# Altium schematic symbol library UNO-TH_Rev3e.SCHLIB: 35 symbols
Pins are listed as number, name and electrical type; pins without a type are passive.

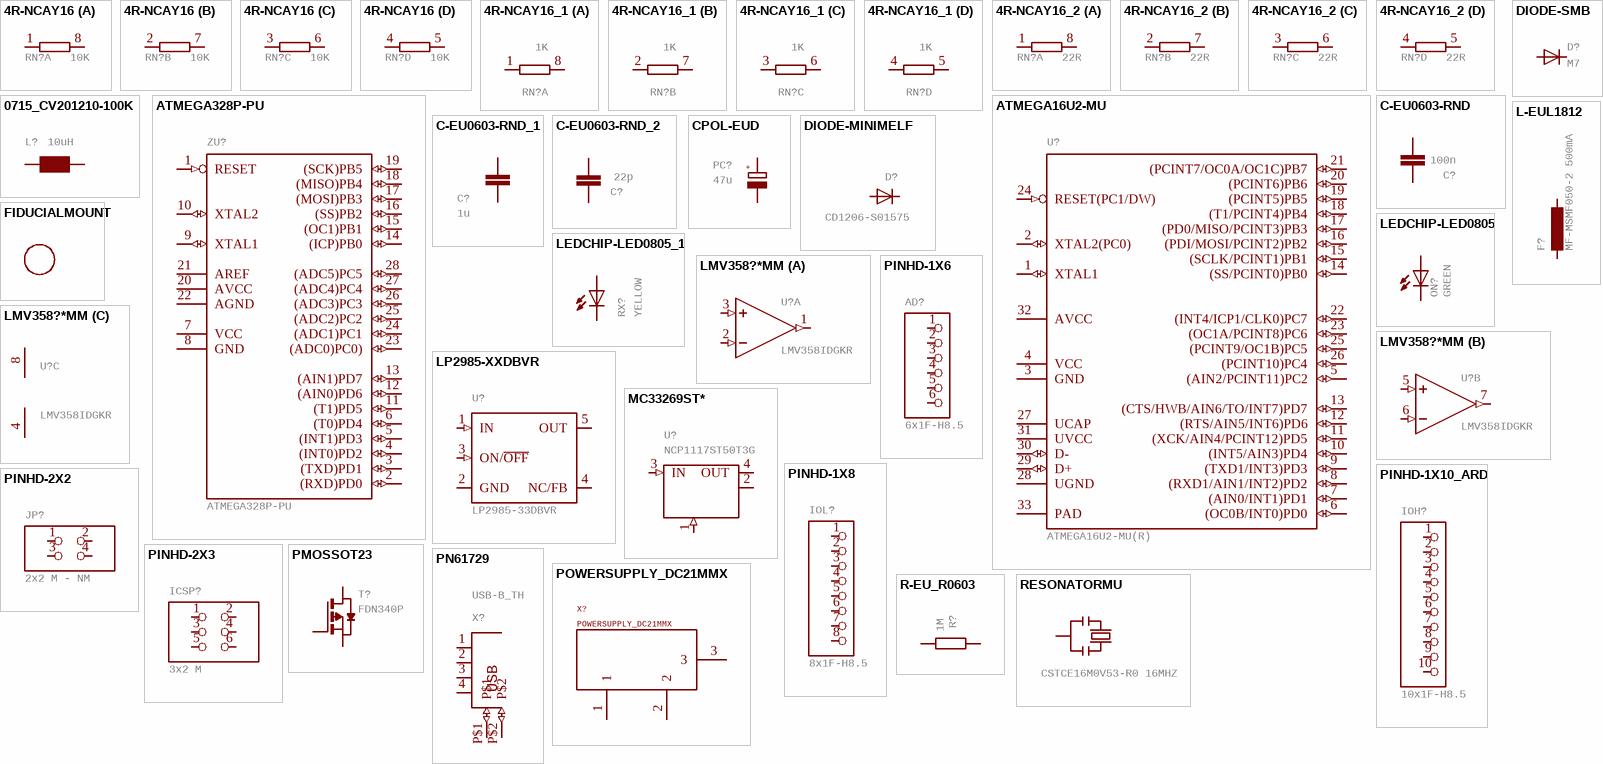
[diagram p0: symbols 4R-NCAY16 to RESONATORMU]

## 4R-NCAY16
designator RN?, comment 10K
Array Chip Resistor   Source: RS Component / Phycomp; GateName_1: A; SymbolName_1: R1NV; GateName_2: B; GateName_3: C; GateName_4: D; DeviceName: CAY16; DeviceSetName: 4R-N; SymbolName_2: R1NV; SymbolName_3: R1NV; SymbolName_4: R1NV; LibraryName: resistor-dil
footprint CAY16
part A pins: 1, 8 2
part B pins: 2 1, 7 2
part C pins: 3 1, 6 2
part D pins: 4 1, 5 2

## 4R-NCAY16_1
designator RN?, comment 1K
Array Chip Resistor   Source: RS Component / Phycomp; GateName_1: A; SymbolName_1: R1NV; GateName_2: B; GateName_3: C; GateName_4: D; DeviceName: CAY16; DeviceSetName: 4R-N; SymbolName_2: R1NV; SymbolName_3: R1NV; SymbolName_4: R1NV; LibraryName: resistor-dil
footprint CAY16
part A pins: 1, 8 2
part B pins: 2 1, 7 2
part C pins: 3 1, 6 2
part D pins: 4 1, 5 2

## 4R-NCAY16_2
designator RN?, comment 22R
Array Chip Resistor   Source: RS Component / Phycomp; GateName_1: A; SymbolName_1: R1NV; GateName_2: B; GateName_3: C; GateName_4: D; DeviceName: CAY16; DeviceSetName: 4R-N; SymbolName_2: R1NV; SymbolName_3: R1NV; SymbolName_4: R1NV; LibraryName: resistor-dil
footprint CAY16
part A pins: 1, 8 2
part B pins: 2 1, 7 2
part C pins: 3 1, 6 2
part D pins: 4 1, 5 2

## 0715_CV201210-100K
designator L?, comment 10uH
10uH 0805; PART_NUMBER: CV201210-100K; GateName_1: G$1; SymbolName_1: L; DeviceSetName: 0715_CV201210-100K; MONTHLY_USAGE: _____; TYPE: Induttanze; LibraryName: Induttanze; CASE: 0805; PRICE: _____; SUPPLIER: _____
footprint 0805
pins: 1, 2

## ATMEGA16U2-MU
designator U?, comment ATMEGA16U2-MU(R)
GateName_1: G$1; SymbolName_1: ATMEL_MEGA8U2; DeviceName: MU; LibraryName: SmartPrj; DeviceSetName: ATMEGA16U2-
footprint MLF32
pins: 1 XTAL1 (io), 2 XTAL2(PC0) (io), 3 GND (power), 4 VCC (power), 5 (AIN2/PCINT11)PC2 (io), 6 (OC0B/INT0)PD0 (io), 7 (AIN0/INT1)PD1 (io), 8 (RXD1/AIN1/INT2)PD2 (io), 9 (TXD1/INT3)PD3 (io), 10 (INT5/AIN3)PD4 (io), 11 (XCK/AIN4/PCINT12)PD5 (io), 12 (RTS/AIN5/INT6)PD6 (io), 13 (CTS/HWB/AIN6/TO/INT7)PD7 (io), 14 (SS/PCINT0)PB0 (io), 15 (SCLK/PCINT1)PB1 (io), 16 (PDI/MOSI/PCINT2)PB2 (io), 17 (PD0/MISO/PCINT3)PB3 (io), 18 (T1/PCINT4)PB4 (io), 19 (PCINT5)PB5 (io), 20 (PCINT6)PB6 (io), 21 (PCINT7/OC0A/OC1C)PB7 (io), 22 (INT4/ICP1/CLK0)PC7 (io), 23 (OC1A/PCINT8)PC6 (io), 24 RESET(PC1/DW) (in), 25 (PCINT9/OC1B)PC5 (io), 26 (PCINT10)PC4 (io), 27 UCAP, 28 UGND (power), 29 D+ (io), 30 D- (io), 31 UVCC (power), 32 AVCC (power), 33 PAD (power)

## ATMEGA328P-PU
designator ZU?
MICROCONTROLLER   4 Kbytes FLASH   128 bytes SRAM   256 bytes EEPROM   UART   6-channel 10 bit ADC; GateName_1: G$1; SymbolName_1: 20-I/O-2; DeviceName: PU; LibraryName: SmartPrj; DeviceSetName: ATMEGA328P-
footprint DIL28-3
pins: 1 RESET (in), 2 (RXD)PD0 (io), 3 (TXD)PD1 (io), 4 (INT0)PD2 (io), 5 (INT1)PD3 (io), 6 (T0)PD4 (io), 7 VCC (power), 8 GND (power), 9 XTAL1 (io), 10 XTAL2 (io), 11 (T1)PD5 (io), 12 (AIN0)PD6 (io), 13 (AIN1)PD7 (io), 14 (ICP)PB0 (io), 15 (OC1)PB1 (io), 16 (SS)PB2 (io), 17 (MOSI)PB3 (io), 18 (MISO)PB4 (io), 19 (SCK)PB5 (io), 20 AVCC (power), 21 AREF, 22 AGND (power), 23 (ADC0)PC0) (io), 24 (ADC1)PC1 (io), 25 (ADC2)PC2 (io), 26 (ADC3)PC3 (io), 27 (ADC4)PC4 (io), 28 (ADC5)PC5 (io)

## C-EU0603-RND
designator C?, comment 100n
CAPACITOR, European symbol; GateName_1: G$1; SymbolName_1: C-EU; DeviceName: 0603-RND; LibraryName: SmartPrj; DeviceSetName: C-EU
footprint C0603-ROUND
pins: 1, 2

## C-EU0603-RND_1
designator C?, comment 1u
CAPACITOR, European symbol; GateName_1: G$1; SymbolName_1: C-EU; DeviceName: 0603-RND; LibraryName: SmartPrj; DeviceSetName: C-EU
footprint C0603-ROUND
pins: 1, 2

## C-EU0603-RND_2
designator C?, comment 22p
CAPACITOR, European symbol; GateName_1: G$1; SymbolName_1: C-EU; DeviceName: 0603-RND; LibraryName: SmartPrj; DeviceSetName: C-EU
footprint C0603-ROUND
pins: 1, 2

## CPOL-EUD
designator PC?, comment 47u
POLARIZED CAPACITOR, European symbol; GateName_1: G$1; SymbolName_1: CPOL; DeviceName: D; DeviceSetName: CPOL-EU; LibraryName: rcl; +: +
footprint PANASONIC_D
pins: +, -

## DIODE-MINIMELF
designator D?, comment CD1206-S01575
DIODE; GateName_1: G$1; SymbolName_1: D; DeviceName: MINIMELF; DeviceSetName: DIODE-; LibraryName: diode
footprint MINIMELF
pins: A, C

## DIODE-SMB
designator D?, comment M7
DIODE; GateName_1: G$1; SymbolName_1: D; DeviceName: SMB; DeviceSetName: DIODE-; LibraryName: diode
footprint SMB
pins: A, C

## FIDUCIALMOUNT
designator FD?  (value not drawn)
GateName_1: G$1; SymbolName_1: FIDUCIAL; LibraryName: SmartPrj; DeviceSetName: FIDUCIALMOUNT
footprint FIDUCIA-MOUNT

## L-EUL1812
designator F?, comment MF-MSMF050-2 500mA
INDUCTOR, European symbol; GateName_1: G$1; SymbolName_1: L-EU; DeviceName: L1812; LibraryName: rcl; DeviceSetName: L-EU
footprint L1812
pins: 1, 2

## LEDCHIP-LED0805
designator ON?, comment GREEN
LED   OSRAM: - CHIPLED LG R971, LG N971, LY N971, LG Q971, LY Q971, LO R971, LY R971 LH N974, LH R974 LS Q976, LO Q976, LY Q976 LO Q996 - Hyper CHIPLED LW Q18S LB Q993, LB Q99A, LB R99A - SideLED LS A670, LO A670, LY A670, LG A670, LP A670 LB A673, LV A673, LT A673, LW A673 LH A674 LY A675 LS A676, LA A676, LO A676, LY A676, LW A676 LS A679, LY A679, LG A679 -  Hyper Micro SIDELEDÂ® LS Y876, LA Y876, LO Y876, LY Y876 LT Y87S - SmartLED LW L88C, LW L88S LB L89C, LB L89S, LG L890 LS L89K, LO L89K, LY L89K LS L896, LA L896, LO L896, LY L896 - TOPLED LS T670, LO T670, LY T670, LG T670, LP T670 LSG T670, LSP T670, LSY T670, LOP T670, LYG T670 LG T671, LOG T671, LSG T671 LB T673, LV T673, LT T673, LW T673 LH T674 LS T676, LA T676, LO T676, LY T676, LB T676, LH T676, LSB T676, LW T676 LB T67C, LV T67C, LT T67C, LS T67K, LO T67K, LY T67K, LW E67C LS E67B, LA E67B, LO E67B, LY E67B, LB E67C, LV E67C, LT E67C LW T67C LS T679, LY T679, LG T679 LS T770, LO T770, LY T770, LG T770, LP T770 LB T773, LV T773, LT T773, LW T773 LH T774 LS E675, LA E675, LY E675, LS T675 LS T776, LA T776, LO T776, LY T776, LB T776 LHGB T686 LT T68C, LB T68C - Hyper Mini TOPLEDÂ® LB M676 - Mini TOPLED SantanaÂ® LG M470 LS M47K, LO M47K, LY M47K    Source: http://www.osram.convergy.de   LUXEON: - LUMILEDÂ® LXK2-PW12-R00, LXK2-PW12-S00, LXK2-PW14-U00, LXK2-PW14-V00 LXK2-PM12-R00, LXK2-PM12-S00, LXK2-PM14-U00 LXK2-PE12-Q00, LXK2-PE12-R00, LXK2-PE12-S00, LXK2-PE14-T00, LXK2-PE14-U00 LXK2-PB12-K00, LXK2-PB12-L00, LXK2-PB12-M00, LXK2-PB14-N00, LXK2-PB14-P00, LXK2-PB14-Q00 LXK2-PR12-L00, LXK2-PR12-M00, LXK2-PR14-Q00, LXK2-PR14-R00 LXK2-PD12-Q00, LXK2-PD12-R00, LXK2-PD12-S00 LXK2-PH12-R00, LXK2-PH12-S00 LXK2-PL12-P00, LXK2-PL12-Q00, LXK2-PL12-R00    Source: www.luxeon.com   KINGBRIGHT:   KA-3528ASYC Source: www.kingbright.com; GateName_1: G$1; DeviceName: CHIP-LED0805; SymbolName_1: LED; LibraryName: led; DeviceSetName: LED
footprint CHIP-LED0805
pins: A, C

## LEDCHIP-LED0805_1
designator RX?, comment YELLOW
LED   OSRAM: - CHIPLED LG R971, LG N971, LY N971, LG Q971, LY Q971, LO R971, LY R971 LH N974, LH R974 LS Q976, LO Q976, LY Q976 LO Q996 - Hyper CHIPLED LW Q18S LB Q993, LB Q99A, LB R99A - SideLED LS A670, LO A670, LY A670, LG A670, LP A670 LB A673, LV A673, LT A673, LW A673 LH A674 LY A675 LS A676, LA A676, LO A676, LY A676, LW A676 LS A679, LY A679, LG A679 -  Hyper Micro SIDELEDÂ® LS Y876, LA Y876, LO Y876, LY Y876 LT Y87S - SmartLED LW L88C, LW L88S LB L89C, LB L89S, LG L890 LS L89K, LO L89K, LY L89K LS L896, LA L896, LO L896, LY L896 - TOPLED LS T670, LO T670, LY T670, LG T670, LP T670 LSG T670, LSP T670, LSY T670, LOP T670, LYG T670 LG T671, LOG T671, LSG T671 LB T673, LV T673, LT T673, LW T673 LH T674 LS T676, LA T676, LO T676, LY T676, LB T676, LH T676, LSB T676, LW T676 LB T67C, LV T67C, LT T67C, LS T67K, LO T67K, LY T67K, LW E67C LS E67B, LA E67B, LO E67B, LY E67B, LB E67C, LV E67C, LT E67C LW T67C LS T679, LY T679, LG T679 LS T770, LO T770, LY T770, LG T770, LP T770 LB T773, LV T773, LT T773, LW T773 LH T774 LS E675, LA E675, LY E675, LS T675 LS T776, LA T776, LO T776, LY T776, LB T776 LHGB T686 LT T68C, LB T68C - Hyper Mini TOPLEDÂ® LB M676 - Mini TOPLED SantanaÂ® LG M470 LS M47K, LO M47K, LY M47K    Source: http://www.osram.convergy.de   LUXEON: - LUMILEDÂ® LXK2-PW12-R00, LXK2-PW12-S00, LXK2-PW14-U00, LXK2-PW14-V00 LXK2-PM12-R00, LXK2-PM12-S00, LXK2-PM14-U00 LXK2-PE12-Q00, LXK2-PE12-R00, LXK2-PE12-S00, LXK2-PE14-T00, LXK2-PE14-U00 LXK2-PB12-K00, LXK2-PB12-L00, LXK2-PB12-M00, LXK2-PB14-N00, LXK2-PB14-P00, LXK2-PB14-Q00 LXK2-PR12-L00, LXK2-PR12-M00, LXK2-PR14-Q00, LXK2-PR14-R00 LXK2-PD12-Q00, LXK2-PD12-R00, LXK2-PD12-S00 LXK2-PH12-R00, LXK2-PH12-S00 LXK2-PL12-P00, LXK2-PL12-Q00, LXK2-PL12-R00    Source: www.luxeon.com   KINGBRIGHT:   KA-3528ASYC Source: www.kingbright.com; GateName_1: G$1; DeviceName: CHIP-LED0805; SymbolName_1: LED; LibraryName: led; DeviceSetName: LED
footprint CHIP-LED0805
pins: A, C

## LMV358?*MM
designator U?, comment LMV358IDGKR
Dual General Purpose, Low Voltage, Rail-to-Rail Output Operational Amplifiers   Source: http://www.national.com/mpf/LM/LMV321.html http://www.national.com/dt/lmv_qual.pdf; GateName_1: A; SymbolName_1: OPAMP; GateName_2: B; GateName_3: P; SymbolName_3: PWR+-; DeviceName: MM; DeviceSetName: LMV358?*; SymbolName_2: OPAMP; LibraryName: linear
footprint MSOP08
part A pins: 1 OUT (out), 2 -IN (in), 3 +IN (in)
part B pins: 5 +IN (in), 6 -IN (in), 7 OUT (out)
part C pins: 4 V- (power), 8 V+ (power)

## LP2985-XXDBVR
designator U?, comment LP2985-33DBVR
ULTRALOW-POWER 50-mA LOW-DROPOUT LINEAR REGULATORS   50-mA Low-Dropout Regulator Source: http://focus.ti.com/lit/ds/symlink/tps77001.pdf; GateName_1: G$1; SymbolName_1: LP2985-XXDBVR; LibraryName: SmartPrj; DeviceSetName: LP2985-XXDBVR
footprint SOT23-DBV
pins: 1 IN (in), 2 GND (power), 3 ON/~{OFF} (in), 4 NC/FB, 5 OUT

## MC33269ST*
designator U?, comment NCP1117ST50T3G
Adjustable Output Low Dropout Voltage Regulator 800 mA   Source: http://www.onsemi.com/pub/Collateral/MC33269-D.PDF; GateName_1: G$1; SymbolName_1: VREG-O2; DeviceSetName: MC33269ST*; LibraryName: linear
footprint SOT223
pins: 1 GND/ADJ (in), 2 OUT, 3 IN (in), 4 OUT

## PINHD-1X6
designator AD?, comment 6x1F-H8.5
PIN HEADER; GateName_1: A; SymbolName_1: PINHD6; DeviceSetName: PINHD-1X6; LibraryName: SmartPrj
footprint 1X06
pins: 1, 2, 3, 4, 5, 6

## PINHD-1X8
designator IOL?, comment 8x1F-H8.5
PIN HEADER; GateName_1: A; SymbolName_1: PINHD8; DeviceSetName: PINHD-1X8; LibraryName: SmartPrj
footprint 1X08
pins: 1, 2, 3, 4, 5, 6, 7, 8

## PINHD-1X10_ARD
designator IOH?, comment 10x1F-H8.5
PIN HEADER; GateName_1: A; SymbolName_1: PINHD10; DeviceSetName: PINHD-1X10_ARD; LibraryName: SmartPrj
footprint 1X10
pins: 1, 2, 3, 4, 5, 6, 7, 8, 9, 10

## PINHD-2X2
designator JP?, comment 2x2 M - NM
PIN HEADER; GateName_1: A; SymbolName_1: PINH2X2; DeviceSetName: PINHD-2X2; LibraryName: SmartPrj
footprint 2X02
pins: 1, 2, 3, 4

## PINHD-2X3
designator ICSP?, comment 3x2 M
PIN HEADER; GateName_1: A; SymbolName_1: PINH2X3; DeviceSetName: PINHD-2X3; LibraryName: SmartPrj
footprint 2X03
pins: 1, 2, 3, 4, 5, 6

## PMOSSOT23
designator T?, comment FDN340P
MOS FET; GateName_1: A; SymbolName_1: P_MOSFET; DeviceSetName: PMOSSOT23; LibraryName: zetex
footprint SOT-23
pins: 1 D, 2 S, 3 G

## PN61729
designator X?, comment USB-B_TH
BERG USB connector; GateName_1: G$1; SymbolName_1: J11; DeviceSetName: PN61729; LibraryName: SmartPrj; USB: USB
footprint PN61729
pins: 1 (io), 2 (io), 3 (io), 4 (io), P$1 (io), P$2 (io)

## POWERSUPPLY_DC21MMX
designator X?
GateName_1: G$1; SymbolName_1: POWERSUPPLY_DC21PWR; DeviceName: X; LibraryName: SmartPrj; DeviceSetName: POWERSUPPLY_DC21MM
footprint POWERSUPPLY_DC-21MM
pins: 1 (power), 2 (power), 3 (power)

## R-EU_R0603
designator R?, comment 1M
RESISTOR, European symbol; GateName_1: G$1; SymbolName_1: R-EU; DeviceName: R0603; DeviceSetName: R-EU_; LibraryName: SmartPrj
footprint R0603-ROUND
pins: 1, 2

## RESONATORMU
designator Y?, comment CSTCE16M0V53-R0 16MHZ
GateName_1: G$1; SymbolName_1: RESONATOR; DeviceName: MU; LibraryName: SmartPrj; DeviceSetName: RESONATOR
footprint RESONATOR
pins: 1, 2, 3

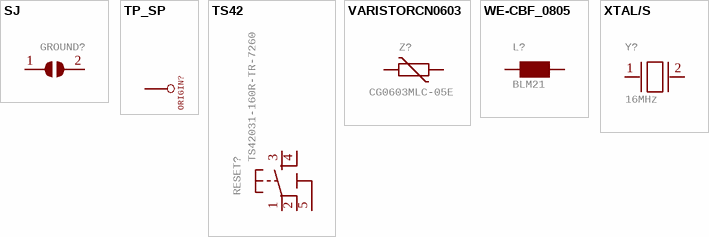
[diagram p1: symbols SJ to XTAL/S]

## SJ
designator GROUND?  (value not drawn)
SMD solder JUMPER; GateName_1: 1; SymbolName_1: SJ; LibraryName: jumper; DeviceSetName: SJ
footprint SJ
pins: 1, 2

## TP_SP
designator ORIGIN?  (value not drawn)
GateName_1: G$1; SymbolName_1: TP-SP; LibraryName: SmartPrj; DeviceSetName: TP_SP
footprint TP-SP
pins: X TESTP

## TS42
designator RESET?, comment TS42031-160R-TR-7260
TS42 Dongnan Electronics Tact switch VDC 12V - 50mA; GateName_1: G$1; SymbolName_1: ST-MOD_V1.4_TS42; LibraryName: SmartPrj; DeviceSetName: TS42
footprint TS42
pins: 1, 2, 3, 4, 5 5-GND (power)

## VARISTORCN0603
designator Z?, comment CG0603MLC-05E
VARISTOR; GateName_1: G$1; DeviceName: CN0603; SymbolName_1: VARISTOR; LibraryName: varistor; DeviceSetName: VARISTOR
footprint CT/CN0603
pins: 1, 2

## WE-CBF_0805
designator L?, comment BLM21
SMD EMI Suppression Ferrite Beads - excellent anti-EMI properties - low DCR - impedances till 3000 ohms - rated current up to 6 A; GateName_1: G$1; SymbolName_1: L; DeviceName: _0805; DeviceSetName: WE-CBF; LibraryName: wuerth-elektronik
footprint 0805
pins: 1, 2

## XTAL/S
designator Y?, comment 16MHz
CRYSTAL; GateName_1: G$1; SymbolName_1: XTAL; DeviceSetName: XTAL/S; LibraryName: SmartPrj
footprint QS
pins: 1, 2